# EAGLE library part AD633 (library ad)
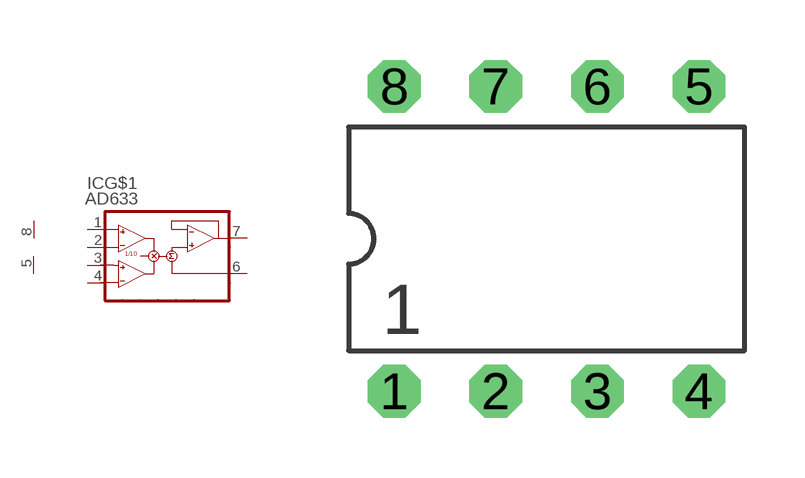
[diagram p1: symbol with the pads of DIL8; footprint DIL8]

Designator prefix IC; gates G$1=AD633 G$2=PWR+-

## AD633  [DIL8]
1  G$1:X1  in
2  G$1:X2  in
3  G$1:Y1  in
4  G$1:Y2  in
5  G$2:V-  pwr
6  G$1:Z  in
7  G$1:W  out
8  G$2:V+  pwr

## Footprint DIL8 (pad centres in mm)
drill 0.813 octagon: 1 -2.54,-3.81
drill 0.813 pad 1.27 octagon: 2 0,-3.81; 3 2.54,-3.81; 4 5.08,-3.81; 5 5.08,3.81; 6 2.54,3.81; 7 0,3.81; 8 -2.54,3.81